# Altium footprint library PCB1.PcbLib: 17 footprints (part 2 of 2)
Each footprint in its own frame and in the unit in brackets; x right, y up, seen from the top. Pads: shape width x height; smd on the part's side, far side on the other; paste and mask are expansions set on the pad; w line width, h text height; cw(c..) or ccw(c..) is an arc to the next point about the centre after c.
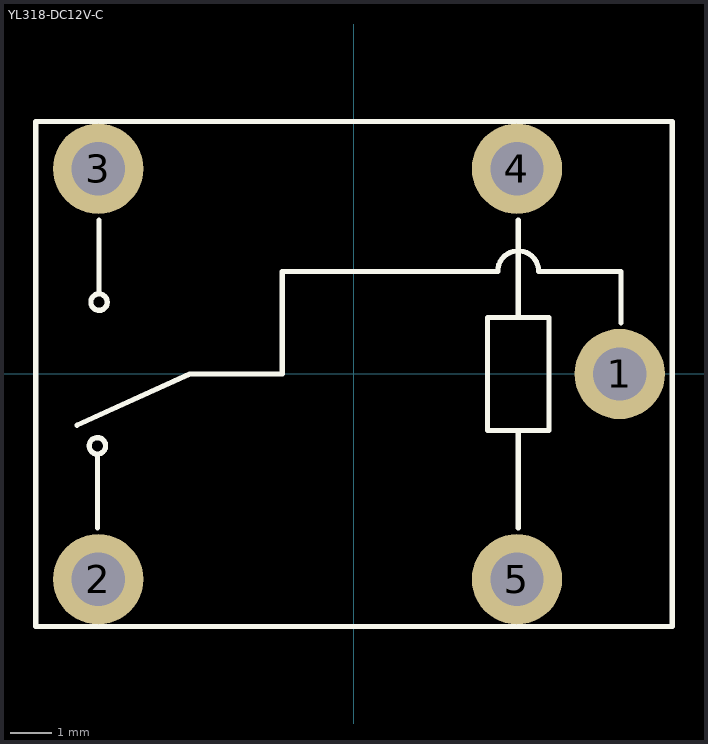
[diagram p1: the footprint, top view; thin cyan lines are the x and y axes]

## YL318-DC12V-C [mm]
pads (5):
  round 2.2 hole 1.3: 1(6.47,0) 2(-6.23,-5) 3(-6.23,5) 4(3.97,5) 5(3.97,-5)
Top Overlay:
  circle w0.127: c-6.21,1.75 r0.2
  circle w0.127: c-6.25,-1.75 r0.2
  lines w0.127: -7.75,5 -7.75,6.15 ; -6.75,-1.25 -4,0 -1.75,0 -1.75,2.5 3.5,2.5 cw(c4,2.5) 4.5,2.5 6.5,2.5 6.5,1.25 ; -6.25,-3.75 -6.25,-1.95 ; -6.21,1.95 -6.21,3.75 ; 4,-3.75 4,-1.375 ; 4,1.375 4,3.75 ; -7.75,6.15 -7.75,-6.15 7.75,-6.15 7.75,6.15 -7.75,6.15 ; 4,-1.375 4,-1.375 ; 4,3.75 4,3.75 ; 3.25,-1.375 3.25,1.375 4.75,1.375 4.75,-1.375 3.25,-1.375
3D body: height 13.5, standoff 0, extent -7.75,-6.15 7.75,6.15